# EAGLE library part CON-FH19-30 (library MAX9812)
Hirose FH19 & FH19S Series 0.5mm pitch, 0.9mm above the board, Flexible Printed Circuit & Flexible Flat Cable Connectors Features: 1. Low-profile 0.5mm pitch FPC, FFC Connectors Miniaturization of portable equipment and personal mobile devices has created increased demand for a low profile, high density, and high reliability connectors. *The design of this connector has been made thinner and smaller, with a height of 0.9mm and width of 3mm. [As of August 2002, this is the smallest connector of this type available on the market !] *PCB footprint: Reduced approximately 48% (as compared with Hirose Electric's 0.5mm pitch FH12 Series connectors) *Connector weight: Reduced approximately 78% (as compared with Hirose Electric's 0.5mm pitch FH12 Series connectors) 2. Conductive traces on the PCB can be designed to run under the connector All bottom surface of the connector is solid, without any exposure of the contact. 3. Proven Flip-Lock Actuator System assures easy and reliable operation Rotating actuator permits easy insertion and reliable connection with the FPC & FFC. Tactile sensation confirms complete mechanical locking of the actuator and the electrical connection. 4. Accepts 0.2mm & 0.3mm thick FPC, FFC Accepts 0.2mm & 0.3mm thick FPC, FFC, easy inserted in the connector. The connector will also terminate successfully with 0.2mm thick Flat Flexible Cable (FFC). 5. Designed for placement with automatic equipment Packaged in embossed tape, on reel. One reel contains 5,000 pieces. 6. Environmental considerations The center cores of the embossed tape reels are made of paper, unlike typical cores made of styrofoam. Applications: Notebook PC's, PDA's, digital cameras and other compact devices requiring interconnections of the main circuit board with the LCD, plasma display (PDP), HDD or other devices. Please send any comments to: messi@users.sourceforge.net
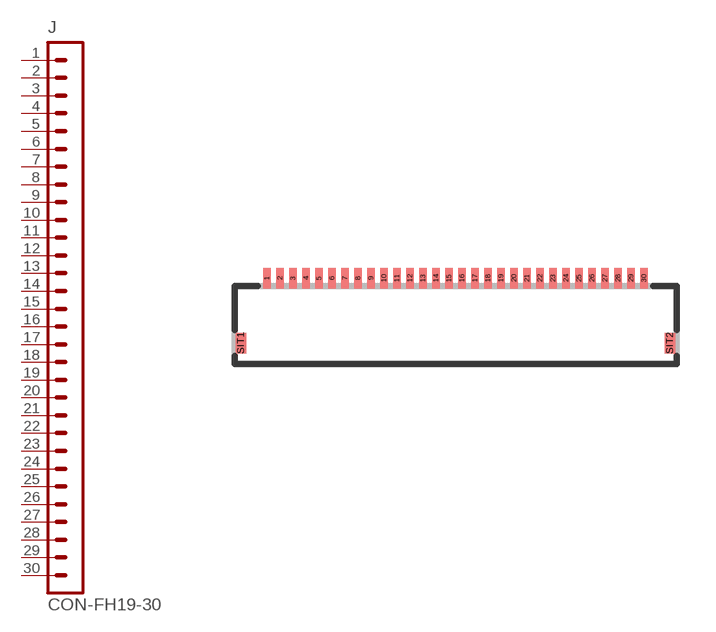
[diagram p13: symbol with the pads of CON-FH19-30; footprint CON-FH19-30]

Designator prefix J

## CON-FH19-30  [CON-FH19-30]
1  1  pas
2  2  pas
3  3  pas
4  4  pas
5  5  pas
6  6  pas
7  7  pas
8  8  pas
9  9  pas
10  10  pas
11  11  pas
12  12  pas
13  13  pas
14  14  pas
15  15  pas
16  16  pas
17  17  pas
18  18  pas
19  19  pas
20  20  pas
21  21  pas
22  22  pas
23  23  pas
24  24  pas
25  25  pas
26  26  pas
27  27  pas
28  28  pas
29  29  pas
30  30  pas

## Footprint CON-FH19-30 (pad centres in mm)
Hirose FH19 30pin 0.5mm pitch FPC/FFC connector
smd 0.3 x 0.8: 1 -7.25,0; 2 -6.75,0; 3 -6.25,0; 4 -5.75,0; 5 -5.25,0; 6 -4.75,0; 7 -4.25,0; 8 -3.75,0; 9 -3.25,0; 10 -2.75,0; 11 -2.25,0; 12 -1.75,0; 13 -1.25,0; 14 -0.75,0; 15 -0.25,0; 16 0.25,0; 17 0.75,0; 18 1.25,0; 19 1.75,0; 20 2.25,0; 21 2.75,0; 22 3.25,0; 23 3.75,0; 24 4.25,0; 25 4.75,0; 26 5.25,0; 27 5.75,0; 28 6.25,0; 29 6.75,0; 30 7.25,0
smd 0.4 x 0.8: SIT1 -8.25,-2.5; SIT2 8.25,-2.5